# EAGLE library part AS7C256 (library memories)
RAM 32K x 8
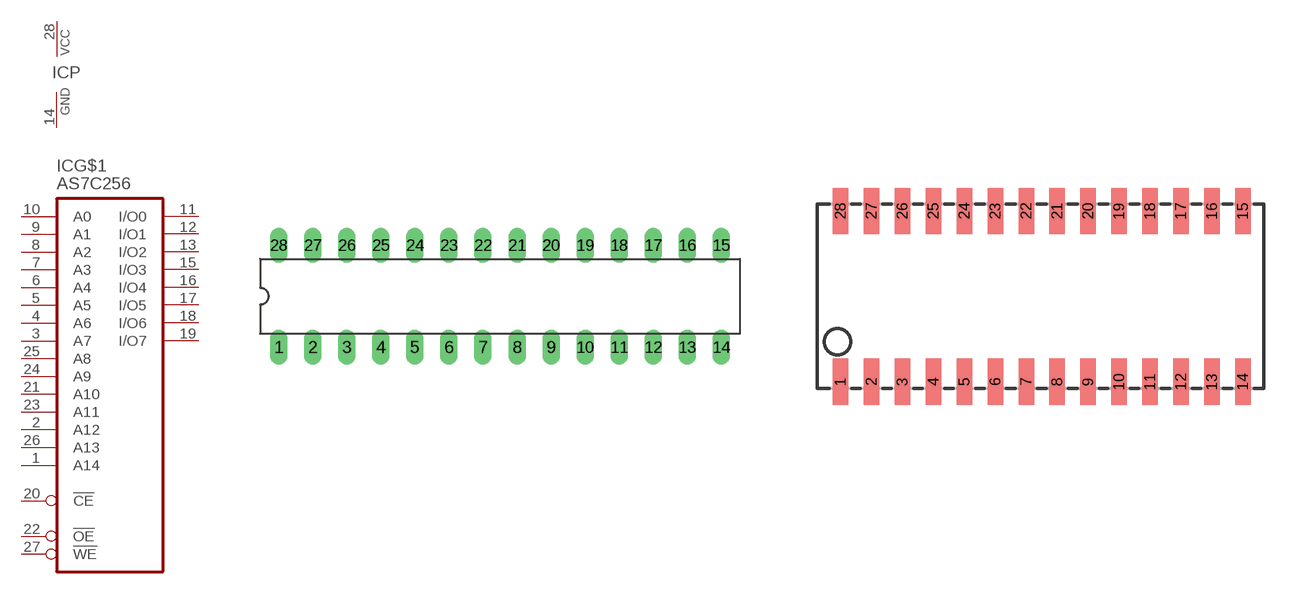
[diagram p1: symbol with the pads of DIL28-3; footprints DIL28-3, SOJ28/3]

Designator prefix IC; gates G$1=RAM32KX8 P=PWRN

## AS7C256P  [DIL28-3]
1  G$1:A14  in
2  G$1:A12  in
3  G$1:A7  in
4  G$1:A6  in
5  G$1:A5  in
6  G$1:A4  in
7  G$1:A3  in
8  G$1:A2  in
9  G$1:A1  in
10  G$1:A0  in
11  G$1:I/O0  hiz
12  G$1:I/O1  hiz
13  G$1:I/O2  hiz
14  P:GND  pwr
15  G$1:I/O3  hiz
16  G$1:I/O4  hiz
17  G$1:I/O5  hiz
18  G$1:I/O6  hiz
19  G$1:I/O7  hiz
20  G$1:!CE  in
21  G$1:A10  in
22  G$1:!OE  in
23  G$1:A11  in
24  G$1:A9  in
25  G$1:A8  in
26  G$1:A13  in
27  G$1:!WE  in
28  P:VCC  pwr

## AS7C256J  [SOJ28/3]
Pads as for DIL28-3

## AS7C256T  [TSOP28]
1  G$1:!OE  in
2  G$1:A11  in
3  G$1:A9  in
4  G$1:A8  in
5  G$1:A13  in
6  G$1:!WE  in
7  P:VCC  pwr
8  G$1:A14  in
9  G$1:A12  in
10  G$1:A7  in
11  G$1:A6  in
12  G$1:A5  in
13  G$1:A4  in
14  G$1:A3  in
15  G$1:A2  in
16  G$1:A1  in
17  G$1:A0  in
18  G$1:I/O0  hiz
19  G$1:I/O1  hiz
20  G$1:I/O2  hiz
21  P:GND  pwr
22  G$1:I/O3  hiz
23  G$1:I/O4  hiz
24  G$1:I/O5  hiz
25  G$1:I/O6  hiz
26  G$1:I/O7  hiz
27  G$1:!CE  in
28  G$1:A10  in

## Footprint DIL28-3 (pad centres in mm)
Dual In Line 0.3 inch
drill 0.813 long: 1 -16.51,-3.81; 2 -13.97,-3.81; 3 -11.43,-3.81; 4 -8.89,-3.81; 5 -6.35,-3.81; 6 -3.81,-3.81; 7 -1.27,-3.81; 8 1.27,-3.81; 9 3.81,-3.81; 10 6.35,-3.81; 11 8.89,-3.81; 12 11.43,-3.81; 13 13.97,-3.81; 14 16.51,-3.81; 15 16.51,3.81; 16 13.97,3.81; 17 11.43,3.81; 18 8.89,3.81; 19 6.35,3.81; 20 3.81,3.81; 21 1.27,3.81; 22 -1.27,3.81; 23 -3.81,3.81; 24 -6.35,3.81; 25 -8.89,3.81; 26 -11.43,3.81; 27 -13.97,3.81; 28 -16.51,3.81

## Footprint SOJ28/3 (pad centres in mm)
Small Outline J-Bend
smd 0.635 x 1.905: 1 -7.62,-3.505; 2 -6.35,-3.505; 3 -5.08,-3.505; 4 -3.81,-3.505; 5 -2.54,-3.505; 6 -1.27,-3.505; 7 0,-3.505; 8 1.27,-3.505; 9 2.54,-3.505; 10 3.81,-3.505; 11 5.08,-3.505; 12 6.35,-3.505; 13 7.62,-3.505; 14 8.89,-3.505; 15 8.89,3.505; 16 7.62,3.505; 17 6.35,3.505; 18 5.08,3.505; 19 3.81,3.505; 20 2.54,3.505; 21 1.27,3.505; 22 0,3.505; 23 -1.27,3.505; 24 -2.54,3.505; 25 -3.81,3.505; 26 -5.08,3.505; 27 -6.35,3.505; 28 -7.62,3.505

## Footprint TSOP28 (pad centres in mm)
smd 1.2 x 0.36: 1 -6.1,3.25; 2 -6.1,2.75; 3 -6.1,2.25; 4 -6.1,1.75; 5 -6.1,1.25; 6 -6.1,0.75; 7 -6.1,0.25; 8 -6.1,-0.25; 9 -6.1,-0.75; 10 -6.1,-1.25; 11 -6.1,-1.75; 12 -6.1,-2.25; 13 -6.1,-2.75; 14 -6.1,-3.25; 15 6.1,-3.25; 16 6.1,-2.75; 17 6.1,-2.25; 18 6.1,-1.75; 19 6.1,-1.25; 20 6.1,-0.75; 21 6.1,-0.25; 22 6.1,0.25; 23 6.1,0.75; 24 6.1,1.25; 25 6.1,1.75; 26 6.1,2.25; 27 6.1,2.75; 28 6.1,3.25